# Altium schematic symbol library Narwhal_main.SCHLIB: 45 symbols
Pins are listed as number, name and electrical type; pins without a type are passive.

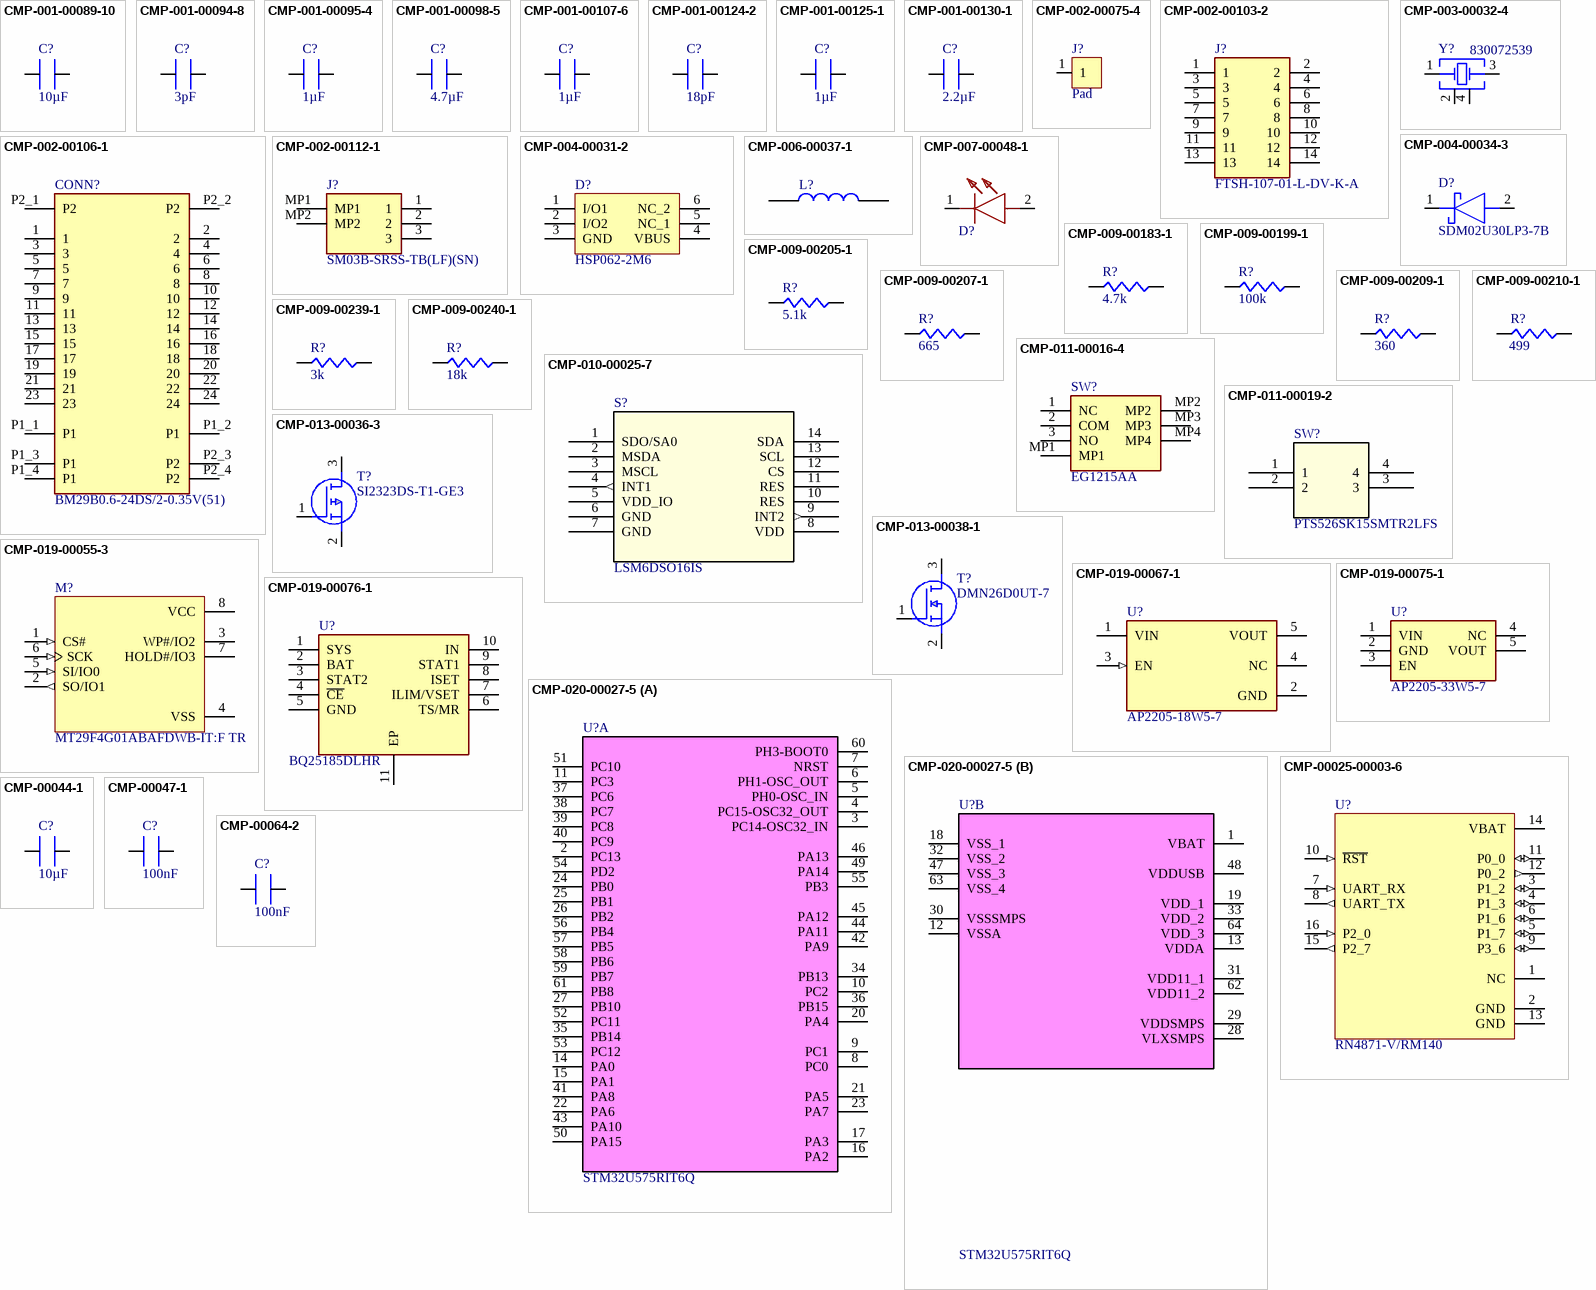
[diagram p0: symbols CMP-001-00089-10 to CMP-00064-2]

## CMP-001-00089-10
designator C?, comment value 10µF  (hidden comment: 0402ZD106MAT2A)
Multilayer Ceramic Chip Capacitor 0402 Size 10uF 10V X5R ±20% Tolerance SMD T/R; Manufacturer: KYOCERA AVX; Manufacturer Part Number: 0402ZD106MAT2A; Component Type: Capacitors
footprint Chip2PinSM127P600-8N (Chip Capacitor Ceramic Multilayer, 0402in, SMD)
pins: 1, 2

## CMP-001-00094-8
designator C?, comment value 3pF  (hidden comment: C0402C309K4GACTU)
Cap Cer 3PF 16V NP0 0402; Manufacturer: KEMET; Tolerance: 10%; Case/Package: 0402; Max Operating Temperature: 125°C; Voltage Rating: 16V; Mounting Technology: Surface Mount; Min Operating Temperature: -55°C; RoHS Compliant: Yes; Manufacturer Part Number: C0402C309K4GACTU; Component Type: Capacitors
footprint Chip2PinSM127P600-8N (Chip Capacitor Ceramic Multilayer, 0402in, SMD)
pins: 1, 2

## CMP-001-00095-4
designator C?, comment value 1µF  (hidden comment: CL03A105KP3NSNC)
Ceramic Capacitor, Multilayer, Ceramic, 10V, 10% +Tol, 10% -Tol, X5R, 15% TC, 1uF, Surface Mount, 0201; Manufacturer: Samsung; Min Operating Temperature: -55°C; Capacitor Type: Ceramic; Pins: 2; Max Operating Temperature: 85°C; Mounting Technology: Surface Mount; Case/Package: 0201; RoHS Compliant: Yes; Manufacturer Part Number: CL03A105KP3NSNC; Component Type: Capacitors
footprint Chip2PinSM127P600-8N (Chip capacitor ceramic multilayer, 0201in, SMD)
pins: 1, 2

## CMP-001-00098-5
designator C?, comment value 4.7µF  (hidden comment: 02016D475MAT2A)
Condensatori in ceramica multistrato MLCC - SMD/SMT 6.3V 4.7uF X5R 0201 20%; Manufacturer: Kyocera AVX; Manufacturer Part Number: CM03X5R475M06AH055; Manufacturer Part Number: 02014D474MAT2A; RoHS Compliant: Yes; Tolerance: 20%; Min Operating Temperature: -55°C; Max Operating Temperature: 85°C; Mounting Technology: Surface Mount; Manufacturer: KYOCERA AVX; Manufacturer Part Number: 02016D475MAT2A; Component Type: Capacitors
footprint Chip2PinSM127P600-8N (Chip capacitor ceramic multilayer, 0201in, SMD)
pins: 1, 2

## CMP-001-00107-6
designator C?, comment value 1µF  (hidden comment: 0402YD105KAT4A)
Ceramic Capacitor, Multilayer, Ceramic, 16V, 10% +Tol, 10% -Tol, X5R, 15% TC, 1uF, Surface Mount, 0402; Manufacturer: KYOCERA AVX; Min Operating Temperature: -55°C; RoHS Compliant: Yes; Case/Package: 0402; Pins: 2; Mounting Technology: Surface Mount; Max Operating Temperature: 85°C; Capacitor Type: Ceramic; Manufacturer Part Number: 0402YD105KAT4A; Component Type: Capacitors
footprint Chip2PinSM127P600-8N (Chip Capacitor Ceramic Multilayer, 0402in, SMD)
pins: 1, 2

## CMP-001-00124-2
designator C?, comment value 18pF  (hidden comment: GRM0335C1E180JA01D)
Ceramic Capacitor, Multilayer, Ceramic, 25V, 5% +Tol, 5% -Tol, C0G, 30ppm/Cel TC, 0.000018uF, Surface Mount, 0201; Manufacturer: Murata; Capacitor Type: Ceramic; Mounting Technology: Surface Mount; Pins: 2; Max Operating Temperature: 125°C; RoHS Compliant: Yes; Case/Package: 0201; Min Operating Temperature: -55°C; Manufacturer Part Number: GRM0335C1E180JA01D; Component Type: Capacitors
footprint Chip2PinSM127P600-8N (Chip capacitor ceramic multilayer, 0201in, SMD)
pins: 1, 2

## CMP-001-00125-1
designator C?, comment value 1µF  (hidden comment: TMK105BJ105MV-F)
Ceramic Capacitor, Multilayer, Ceramic, 25V, 20% +Tol, 20% -Tol, X5R, 15% TC, 1uF, Surface Mount, 0402; Manufacturer: TAIYO YUDEN; Case/Package: 0402; Capacitor Type: Ceramic; Mounting Technology: Surface Mount; Pins: 2; Max Operating Temperature: 85°C; RoHS Compliant: Yes; Min Operating Temperature: -55°C; Manufacturer Part Number: TMK105BJ105MV-F; Component Type: Capacitors
footprint Chip2PinSM127P600-8N (Chip Capacitor Ceramic Multilayer, 0402in, SMD)
pins: 1, 2

## CMP-001-00130-1
designator C?, comment value 2.2µF  (hidden comment: LMK105BJ225MV-F)
Ceramic Capacitor, Multilayer, Ceramic, 10V, 20% +Tol, 20% -Tol, X5R, 15% TC, 2.2uF, Surface Mount, 0402; Manufacturer: TAIYO YUDEN; Capacitor Type: Ceramic; Mounting Technology: Surface Mount; Case/Package: 0402; Min Operating Temperature: -55°C; Max Operating Temperature: 85°C; RoHS Compliant: Yes; Pins: 2; Manufacturer Part Number: LMK105BJ225MV-F; Component Type: Capacitors
footprint Chip2PinSM127P600-8N (Chip Capacitor Ceramic Multilayer, 0402in, SMD)
pins: 1, 2

## CMP-002-00075-4
designator J?, comment Pad  (no BOM)
Pad to connect external electrodes or sensors. Choose the right footprint.; Component Type: Connectors
footprint Pad-Footprint-1
pins: 1

## CMP-002-00103-2
designator J?, comment FTSH-107-01-L-DV-K-A
Board Connector; Manufacturer: Samtec; Connector Type: BOARD CONNECTOR; RoHS Compliant: Yes; Manufacturer Part Number: FTSH-107-01-L-DV-K-A; Component Type: Connectors
footprint FTSH-107-01-L-DV-K-A-Footprint-1
pins: 1, 2, 3, 4, 5, 6, 7, 8, 9, 10, 11, 12, 13, 14

## CMP-002-00106-1
designator CONN?, comment BM29B0.6-24DS/2-0.35V(51)
Connector Receptacle 26 Pos (24+2) SMD; Manufacturer: HIROSE ELECTRIC; Manufacturer Part Number: BM29B0.6-24DS/2-0.35V(51); Component Type: Connectors
footprint BM29B0.6-24DS_2-0.35V(51)-Footprint-1
pins: 1, 2, 3, 4, 5, 6, 7, 8, 9, 10, 11, 12, 13, 14, 15, 16, 17, 18, 19, 20, 21, 22, 23, 24, P1_1 P1 (power), P1_2 P1 (power), P1_3 P1 (power), P1_4 P1 (power), P2_1 P2 (power), P2_2 P2 (power), P2_3 P2 (power), P2_4 P2 (power)

## CMP-002-00112-1
designator J?, comment SM03B-SRSS-TB(LF)(SN)
Connector Header, Side Entry, SR Series, 3 Position, 1.00mm, 50V, Surface Mount, Tin, Natural; Manufacturer: JST; Gender: Male; Connector Type: Male Pin; Max Current Rating: 1A; Min Operating Temperature: -25°C; Mounting Technology: Surface Mount, Termination; Max Operating Temperature: 85°C; Pins: 3; Voltage Rating: 50V; Manufacturer Part Number: SM03B-SRSS-TB(LF)(SN); Component Type: Connectors
footprint SM03B-SRSS-TB(LF)(SN)-Footprint-1
pins: 1, 2, 3, MP1, MP2

## CMP-003-00032-4
designator Y?, comment 830072539
Cristalli WE-XTAL 24.0MHz 15ppm 1.6 x 1.2mm; Manufacturer: Wurth Elektronik; Manufacturer Part Number: 830072539; Component Type: Crystals & Oscillators
footprint 830072539-Footprint-1
pins: 1 Crystal, 2 GND, 3 Crystal, 4 GND

## CMP-004-00031-2
designator D?, comment HSP062-2M6
TVS DIODE 3VWM 18VC 6UQFN / ESD Suppressor Diode Array Uni-Dir 3V 6-Pin UQFN T/R; Manufacturer: STMicroelectronics; Manufacturer Part Number: HSP062-2M6; Component Type: Diodes
footprint HSP062-2M6-Footprint-1
pins: 1 I/O1, 2 I/O2, 3 GND, 4 VBUS, 5 NC_1, 6 NC_2

## CMP-004-00034-3
designator D?, comment SDM02U30LP3-7B
Rectifier Diode, Schottky, 1 Phase, 1 Element, 0.1A, 30V V(RRM), Silicon; Manufacturer: Diodes Inc.; Forward Voltage: 370mV; RoHS Compliant: Yes; Max Operating Temperature: 150°C; Pins: 2; Min Operating Temperature: -65°C; Manufacturer Part Number: SDM02U30LP3-7B; Component Type: Diodes
footprint SDM02U30LP3-7B-Footprint-1
pins: 1 K, 2 A

## CMP-006-00037-1
designator L?, comment PLEA67BBA2R2M-1PT00  (value not drawn)
Power Inductors - SMD 2.2uH 20% 620mOhm 0.5A; Manufacturer: TDK; Manufacturer Part Number: PLEA67BBA2R2M-1PT00; Component Type: Inductors
footprint FP-PLEA67-MFG
pins: 1, 2

## CMP-007-00048-1
designator D?, comment KS EELP41.22-P1R2-58-A8J8-020-R18  (value not drawn)
Single Colour LEDs; Component Type: LED
footprint KS EELP41.22-P1R2-58-A8J8-020-R18-Footprint-1
pins: 1 K, 2 A

## CMP-009-00183-1
designator R?, comment value 4.7k  (hidden comment: CRCW04024K70FKED)
SMD Chip Resistor, 4.7 kOhm, ± 1%, 63 mW, 0402 [1005 Metric], Thick Film, General Purpose; Manufacturer: Vishay; Manufacturer Part Number: CRCW04024K70FKED; Component Type: Resistors
footprint RESC1005X04N (Chip Resistor, 0402in, 2-Leads, Body 1,00x0,50mm, IPC Medium Density)
pins: 1, 2

## CMP-009-00199-1
designator R?, comment value 100k  (hidden comment: ERJ-1GNJ104C)
Fixed Resistor, Metal Glaze/thick Film, 0.05W, 100000ohm, 25V, 5% +/-Tol, 200ppm/Cel, Surface Mount, 0201; Manufacturer: Panasonic; Power: 50mW; Min Operating Temperature: -55°C; Max Operating Temperature: 125°C; RoHS Compliant: Yes; Pins: 2; Case/Package: 0201; Mounting Technology: Surface Mount; Tolerance: 5%; Manufacturer Part Number: ERJ-1GNJ104C; Component Type: Resistors
footprint Chip2PinSM127P600-8N (Chip Resistor, 0201in, SMD)
pins: 1, 2

## CMP-009-00205-1
designator R?, comment value 5.1k  (hidden comment: ERJ-1GNF5101C)
Fixed Resistor, Metal Glaze/thick Film, 0.05W, 5100ohm, 25V, 1% +/-Tol, 200ppm/Cel, Surface Mount, 0201; Manufacturer: Panasonic; Power: 50mW; Case/Package: 0201; Pins: 2; RoHS Compliant: Yes; Min Operating Temperature: -55°C; Tolerance: 1%; Max Operating Temperature: 125°C; Mounting Technology: Surface Mount; Manufacturer Part Number: ERJ-1GNF5101C; Component Type: Resistors
footprint Chip2PinSM127P600-8N (Chip Resistor, 0201in, SMD)
pins: 1, 2

## CMP-009-00207-1
designator R?, comment value 665  (hidden comment: CRCW0201665RFKED)
Fixed Resistor, Metal Glaze/thick Film, 0.05W, 665ohm, 30V, 1% +/-Tol, 100ppm/Cel, Surface Mount, 0201; Manufacturer: Vishay; Power: 50mW; Tolerance: 1%; RoHS Compliant: Yes; Max Operating Temperature: 155°C; Mounting Technology: Surface Mount; Pins: 2; Case/Package: 0201; Min Operating Temperature: -55°C; Manufacturer Part Number: CRCW0201665RFKED; Component Type: Resistors
footprint Chip2PinSM127P600-8N (Chip Resistor, 0201in, SMD)
pins: 1, 2

## CMP-009-00209-1
designator R?, comment value 360  (hidden comment: CRCW0201360RFKED)
Fixed Resistor, Metal Glaze/thick Film, 0.05W, 360ohm, 30V, 1% +/-Tol, 100ppm/Cel, Surface Mount, 0201; Manufacturer: Vishay; Power: 50mW; Min Operating Temperature: -55°C; Max Operating Temperature: 155°C; Mounting Technology: Surface Mount; Case/Package: 0201; Tolerance: 1%; Pins: 2; RoHS Compliant: Yes; Manufacturer Part Number: CRCW0201360RFKED; Component Type: Resistors
footprint Chip2PinSM127P600-8N (Chip Resistor, 0201in, SMD)
pins: 1, 2

## CMP-009-00210-1
designator R?, comment value 499  (hidden comment: ERA-1AEB4990C)
0201 Thin film chip resistor 0201 SMD Resistor 0.1% 25ppm 499ohm; Manufacturer: Panasonic; Manufacturer Part Number: ERA-1AEB4990C; Component Type: Resistors
footprint Chip2PinSM127P600-8N (Chip Resistor, 0201in, SMD)
pins: 1, 2

## CMP-009-00239-1
designator R?, comment value 3k  (hidden comment: TNPW02013K00BEED)
Fixed Resistor, Thin Film, 0.05W, 3000ohm, 25V, 0.1% +/-Tol, 25ppm/Cel, Surface Mount, 0201; Manufacturer: Vishay; Tolerance: 0.1%; Min Operating Temperature: -55°C; Max Operating Temperature: 125°C; Case/Package: 0201; Mounting Technology: Surface Mount; Voltage Rating: 25V; Manufacturer Part Number: TNPW02013K00BEED; Component Type: Resistors
footprint Chip2PinSM127P600-8N (Chip Resistor, 0201in, SMD)
pins: 1, 2

## CMP-009-00240-1
designator R?, comment value 18k  (hidden comment: TNPW020118K0BEED)
Fixed Resistor, Thin Film, 0.05W, 18000ohm, 25V, 0.1% +/-Tol, 25ppm/Cel, Surface Mount, 0201; Manufacturer: Vishay; Min Operating Temperature: -55°C; Max Operating Temperature: 125°C; Mounting Technology: Surface Mount; Tolerance: 0.1%; Manufacturer Part Number: TNPW020118K0BEED; Component Type: Resistors
footprint Chip2PinSM127P600-8N (Chip Resistor, 0201in, SMD)
pins: 1, 2

## CMP-010-00025-7
designator S?, comment LSM6DSO16IS
IMU 6-axis with Intelligent Sensor Process Unit; Manufacturer: STMicroelectronics; Manufacturer Part Number: LSM6DSO16ISTR; Component Type: Sensors
footprint LSM6DSO16IS-Footprint-1
pins: 1 SDO/SA0, 2 MSDA, 3 MSCL, 4 INT1 (out), 5 VDD_IO (power), 6 GND (power), 7 GND (power), 8 VDD (power), 9 INT2 (out), 10 RES, 11 RES, 12 CS, 13 SCL, 14 SDA

## CMP-011-00016-4
designator SW?, comment EG1215AA
Slide Switch; Manufacturer: E-Switch; Manufacturer Part Number: EG1215AA; Component Type: Switches
footprint EG1215AA-Footprint-1
pins: 1 NC, 2 COM, 3 NO, MP1, MP2, MP3, MP4

## CMP-011-00019-2
designator SW?, comment PTS526SK15SMTR2LFS
Switch Tactile N.O. SPST Round Button Gull Wing 0.05A 12VDC 200000Cycles 2.45N SMD T/R; Manufacturer: C&K Components; Manufacturer Part Number: PTS526 SK15 SMTR2 LFS; Component Type: Switches
footprint PTS526SK15SMTR2LFS-Footprint-1
pins: 1, 2, 3, 4

## CMP-013-00036-3
designator T?, comment SI2323DS-T1-GE3
Small Signal Field-Effect Transistor, 3.7A I(D), 20V, 1-Element, P-Channel, Silicon, Metal-oxide Semiconductor FET, TO-236AB; Manufacturer: Vishay; Max Operating Temperature: 150°C; Pins: 3; RoHS Compliant: Yes; Manufacturer Part Number: SI2323DS-T1-GE3; Component Type: Transistors
footprint SI2323DS-T1-GE3-Footprint-1
pins: 1 G, 2 S, 3 D

## CMP-013-00038-1
designator T?, comment DMN26D0UT-7
Small Signal Field-Effect Transistor, 0.23A I(D), 20V, 1-Element, N-Channel, Silicon, Metal-oxide Semiconductor FET; Manufacturer: Diodes Inc.; Max Operating Temperature: 150°C; Pins: 3; RoHS Compliant: Yes; Manufacturer Part Number: DMN26D0UT-7; Component Type: Transistors
footprint DMN26D0UT-7-Footprint-1
pins: 1 G, 2 S, 3 D

## CMP-019-00055-3
designator M?, comment MT29F4G01ABAFDWB-IT:F TR
Active Non-Volatile SPI FLASH ic memory -40C~85C TA 2.7V~3.6V 4Gb 4G x 1; Manufacturer: Micron; Manufacturer Part Number: MT29F4G01ABAFDWB-IT:F TR; Component Type: Memory
footprint MT29F4G01ABAFDWB-IT:F TR-Footprint-1
pins: 1 CS# (in), 2 SO/IO1 (out), 3 WP#/IO2 (power), 4 VSS (power), 5 SI/IO0 (in), 6 SCK (in), 7 HOLD#/IO3 (power), 8 VCC (power)

## CMP-019-00067-1
designator U?, comment AP2205-18W5-7
LDO Voltage Regulators LDO CMOS LowCurr. 1.8V fixed; Component Type: Power Supply
footprint AP2205-18W5-7-Footprint-1
pins: 1 VIN (power), 2 GND (power), 3 EN (in), 4 NC, 5 VOUT (power)

## CMP-019-00075-1
designator U?, comment AP2205-33W5-7
Fixed LDO Voltage Regulator, 2.3V to 24V in, 360mV Drop, 3.3V out, 200mA out, SOT-25-5; Manufacturer: Diodes Inc.; Output Voltage: 3.3V; Max Supply Voltage: 24V; Manufacturer Part Number: AP2205-33W5-7; Component Type: Power Supply
footprint AP2205-33W5-7-Footprint-1
pins: 1 VIN, 2 GND, 3 EN, 4 NC, 5 VOUT

## CMP-019-00076-1
designator U?, comment BQ25185DLHR
1-cell, 1-A stand-alone linear battery charger with power path and solar input support 10-WSON -40 to 125; Manufacturer: Texas Instruments; Pins: 10; Manufacturer Part Number: BQ25185DLHR; Component Type: Power Supply
footprint BQ25185DLHR-Footprint-1
pins: 1 SYS, 2 BAT, 3 STAT2, 4 ~{CE}, 5 GND, 6 TS/MR, 7 ILIM/VSET, 8 ISET, 9 STAT1, 10 IN, 11 EP

## CMP-020-00027-5
designator U?, comment STM32U575RIT6Q
Ultra-low-power with FPU Arm Cortex-M33 MCU with TrustZone, 160 MHz with 2 Mbytes of Flash memory; Component Type: Processors
footprint STM32U575RIT6Q-Footprint-1
part A pins: 2 PC13, 3 PC14-OSC32_IN, 4 PC15-OSC32_OUT, 5 PH0-OSC_IN, 6 PH1-OSC_OUT, 7 NRST, 8 PC0, 9 PC1, 10 PC2, 11 PC3, 14 PA0, 15 PA1, 16 PA2, 17 PA3, 20 PA4, 21 PA5, 22 PA6, 23 PA7, 24 PB0, 25 PB1, 26 PB2, 27 PB10, 34 PB13, 35 PB14, 36 PB15, 37 PC6, 38 PC7, 39 PC8, 40 PC9, 41 PA8, 42 PA9, 43 PA10, 44 PA11, 45 PA12, 46 PA13, 49 PA14, 50 PA15, 51 PC10, 52 PC11, 53 PC12, 54 PD2, 55 PB3, 56 PB4, 57 PB5, 58 PB6, 59 PB7, 60 PH3-BOOT0, 61 PB8
part B pins: 1 VBAT, 12 VSSA, 13 VDDA, 18 VSS_1, 19 VDD_1, 28 VLXSMPS, 29 VDDSMPS, 30 VSSSMPS, 31 VDD11_1, 32 VSS_2, 33 VDD_2, 47 VSS_3, 48 VDDUSB, 62 VDD11_2, 63 VSS_4, 64 VDD_3

## CMP-00025-00003-6
designator U?, comment RN4871-V/RM140
Bluetooth Modules - 802.15.1 Bluetooth Low Energy BLE Module, Shielded, Antenna, ASCII Interface, 9x11.5mm; Manufacturer: Microchip; Manufacturer Part Number: RN4871-V/RM118; Component Type: Radio&RF
footprint RN4871-V_RM118-Footprint-1
pins: 1 NC, 2 GND (power), 3 P1_2 (io), 4 P1_3 (io), 5 P1_7 (io), 6 P1_6 (io), 7 UART_RX (in), 8 UART_TX (out), 9 P3_6 (io), 10 ~{RST} (in), 11 P0_0 (io), 12 P0_2 (out), 13 GND (power), 14 VBAT (power), 15 P2_7 (out), 16 P2_0 (in)

## CMP-00044-1
designator C?, comment value 10µF  (hidden comment: 0402ZD106MAT2A)
Ceramic Capacitor, Multilayer, Ceramic, 10V, 20% +Tol, 20% -Tol, X5R, 15% TC, 10uF, Surface Mount, 0402; Manufacturer: KYOCERA AVX; Multilayer: Yes; Rated DC Voltage (URdc): 10V; Packaging: Tape and Reel; Dielectric Material: Ceramic; Mounting Technology: Surface Mount; Tolerance (fill in as +-): 20%; Terminal Finish: Nickel; Termination: Wraparound; JESD-609 Code: e3; Pins: 2; Max Operating Temperature: 85°C; Temperature Characteristics Code: X5R; RoHS Compliant: Yes; Tolerance  (fill in as +-): 20%; Min Operating Temperature: -55°C; Reach SVHC Compliant: Yes; Capacitor Type: Ceramic; Package Shape: Rectangular; Case/Package: 0402; Manufacturer Part Number: 0402ZD106MAT2A; Component Type: Capacitors
footprint Chip2PinSM127P600-8N (Chip Capacitor Ceramic Multilayer, 0402in, SMD)
pins: 1, 2

## CMP-00047-1
designator C?, comment value 100nF  (hidden comment: 0402YC104JAT4A)
Ceramic Capacitor, Multilayer, Ceramic, 16V, 5% +Tol, 5% -Tol, X7R, 15% TC, 0.1uF, Surface Mount, 0402; Manufacturer: KYOCERA AVX; Multilayer: Yes; Rated DC Voltage (URdc): 16V; Tolerance  (fill in as +-): 5%; Dielectric Material: Ceramic; Reach SVHC Compliant: Yes; Package Style: SMTMeter; Mounting Technology: Surface Mount; Length: 1mm; Termination: Wraparound; Min Operating Temperature: -55°C; Width: 0.5mm; Tolerance (fill in as +-): 5%; Case/Package: 0402; Capacitor Type: Ceramic; RoHS Compliant: Yes; JESD-609 Code: e3; Max Operating Temperature: 125°C; Height: 0.56mm; Pins: 2; Package Shape: Rectangular; Packaging: Tape and Reel; Temperature Characteristics Code: X7R; Terminal Finish: Nickel; Manufacturer Part Number: 0402YC104JAT4A; Component Type: Capacitors
footprint Chip2PinSM127P600-8N (Chip Capacitor Ceramic Multilayer, 0402in, SMD)
pins: 1, 2

## CMP-00064-2
designator C?, comment value 100nF  (hidden comment: 0201ZD104KAT2A)
Ceramic Capacitor, Non-polarized, Multilayer, Ceramic, 10V, 10% +Tol, 10% -Tol, X5R, 15% TC, 0.1uF, Surface Mount, 0201; Manufacturer: KYOCERA AVX; Multilayer: Yes; Length: 0.6mm; Packaging: Tape and Reel; Reach SVHC Compliant: Yes; Height: 0.33mm; Min Operating Temperature: -55°C; Tolerance  (fill in as +-): 10%; Tolerance (fill in as +-): 10%; Package Style: SMTMeter; Mounting Technology: Surface Mount; Case/Package: 0201; Terminal Finish: Nickel; Dielectric Material: Ceramic; RoHS Compliant: Yes; Capacitor Type: Ceramic; JESD-609 Code: e3; Rated DC Voltage (URdc): 10V; Width: 0.3mm; Termination: Wraparound; Max Operating Temperature: 85°C; Pins: 2; Package Shape: Rectangular; Temperature Characteristics Code: X5R; Manufacturer Part Number: 0201ZD104KAT2A; Component Type: Capacitors
footprint Chip2PinSM127P600-8N (Chip capacitor ceramic multilayer, 0201in, SMD)
pins: 1, 2

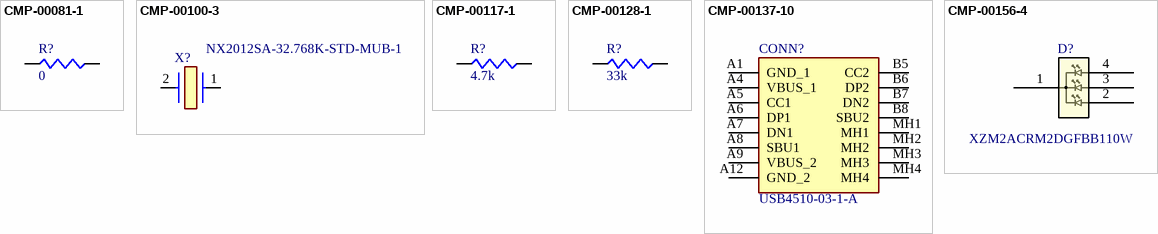
[diagram p1: symbols CMP-00081-1 to CMP-00156-4]

## CMP-00081-1
designator R?, comment value 0  (hidden comment: CRCW02010000Z0ED)
Fixed Resistor, Metal Glaze/thick Film, 0.05W, 0ohm, Surface Mount, 0201; Manufacturer: Vishay; Package Length: 0.6mm; Power: 50mW; Rated Temperature: 70°C; Package Width: 0.3mm; Package Height: 0.23mm; Reference Standard: AEC-Q200; Terminal Finish: Nickel; Pins: 2; Package Shape: Rectangular; Resistor Type: FIXED RESISTOR; Max Operating Temperature: 155°C; Min Operating Temperature: -55°C; JESD-609 Code: e3; Mounting Technology: Surface Mount; Termination: Wraparound; Package Style: SMTMeter; RoHS Compliant: Yes; Case/Package: 0201; Construction: Chip; Reach SVHC Compliant: Yes; Technology: METAL GLAZE/THICK FILM; Packaging: Tape and Reel; Manufacturer Part Number: CRCW02010000Z0ED; Component Type: Resistors
footprint Chip2PinSM127P600-8N (Chip Resistor, 0201in, SMD)
pins: 1, 2

## CMP-00100-3
designator X?, comment NX2012SA-32.768K-STD-MUB-1
Parallel - Fundamental Quartz Crystal, 0.032768MHz Nom; Manufacturer: NDK; Load Capacitance: 12.5pF; Drive Level: 0.1uW; ESR: 80k; Frequency Tolerance: 20ppm; Frequency Stability: 0.0144%; Crystal/Resonator Type: PARALLEL - FUNDAMENTAL; Max Operating Temperature: 85°C; Mounting Technology: Surface Mount; Manufacturer Series: NX2012SA; Min Operating Temperature: -40°C; Operating Frequency-Nom: 0.032768; RoHS Compliant: Yes; Reach SVHC Compliant: Yes; Manufacturer Part Number: NX2012SA-32.768K-STD-MUB-1; Component Type: Crystals & Oscillators
footprint NX2012SA-32.768K-STD-MUB-1-Footprint-1
pins: 1 CRYSTAL_1, 2 CRYSTAL_2

## CMP-00117-1
designator R?, comment value 4.7k  (hidden comment: CR0201-JW-472GLF)
Fixed Resistor, Metal Glaze/thick Film, 0.05W, 4700ohm, 30V, 5% +/-Tol, 200ppm/Cel, Surface Mount, 0201; Manufacturer: Bourns; Temperature Coefficient: 200ppm/°C; Working Voltage: 25V; Rated Temperature: 70°C; Package Height: 0.23mm; Power: 50mW; Package Width: 0.3mm; Package Length: 0.6mm; Max Operating Temperature: 125°C; Construction: Chip; Technology: RUTHENIUM OXIDE; Min Operating Temperature: -55°C; Terminal Finish: Nickel; Packaging: Tape and Reel; Pins: 2; Tolerance: 5%; Termination: Wraparound; Package Style: SMTMeter; Reach SVHC Compliant: Yes; Mounting Technology: Surface Mount; Package Shape: Rectangular; JESD-609 Code: e3; Case/Package: 0201; Resistor Type: FIXED RESISTOR; RoHS Compliant: Yes; Manufacturer Part Number: CR0201-JW-472GLF; Component Type: Resistors
footprint Chip2PinSM127P600-8N (Chip Resistor, 0201in, SMD)
pins: 1, 2

## CMP-00128-1
designator R?, comment value 33k  (hidden comment: CR0201-FW-3302GLF)
Fixed Resistor, Metal Glaze/thick Film, 0.05W, 33000ohm, 30V, 1% +/-Tol, 200ppm/Cel, Surface Mount, 0201; Manufacturer: Bourns; Package Width: 0.3mm; Power: 50mW; Working Voltage: 25V; Package Length: 0.6mm; Temperature Coefficient: 200ppm/°C; Package Height: 0.23mm; Rated Temperature: 70°C; Tolerance: 1%; Pins: 2; Termination: Wraparound; JESD-609 Code: e3; Package Shape: Rectangular; Min Operating Temperature: -55°C; Case/Package: 0201; RoHS Compliant: Yes; Packaging: Tape and Reel; Terminal Finish: Nickel; Max Operating Temperature: 125°C; Mounting Technology: Surface Mount; Construction: Chip; Reach SVHC Compliant: Yes; Package Style: SMTMeter; Resistor Type: FIXED RESISTOR; Technology: RUTHENIUM OXIDE; Manufacturer Part Number: CR0201-FW-3302GLF; Component Type: Resistors
footprint Chip2PinSM127P600-8N (Chip Resistor, 0201in, SMD)
pins: 1, 2

## CMP-00137-10
designator CONN?, comment USB4510-03-1-A
Connettori USB USB C Rec 16P 3u" Mid Mnt 1.6mm O-set SMT L = 6.5mm S-Spring; Manufacturer: Global Connector Technology; Manufacturer Part Number: USB4510-03-1-A; Component Type: Connectors
footprint USB4510-03-1-A-Footprint-1
pins: A1 GND_1, A4 VBUS_1, A5 CC1, A6 DP1, A7 DN1, A8 SBU1, A9 VBUS_2, A12 GND_2, B5 CC2, B6 DP2, B7 DN2, B8 SBU2, MH1, MH2, MH3, MH4

## CMP-00156-4
designator D?, comment XZM2ACRM2DGFBB110W
1.6X1.6MM Rgb Full Color SMD Led; Manufacturer: SunLED; Manufacturer Part Number: XZM2ACRM2DGFBB110W; Component Type: LED
footprint XZM2ACRM2DGFBB110W-Footprint-1
pins: 1, 2, 3, 4